# Altium footprint library Lib1.PcbLib: 38 footprints (part 3 of 3)
Each footprint in its own frame and in the unit in brackets; x right, y up, seen from the top. Pads: shape width x height; smd on the part's side, far side on the other; paste and mask are expansions set on the pad; w line width, h text height; cw(c..) or ccw(c..) is an arc to the next point about the centre after c.
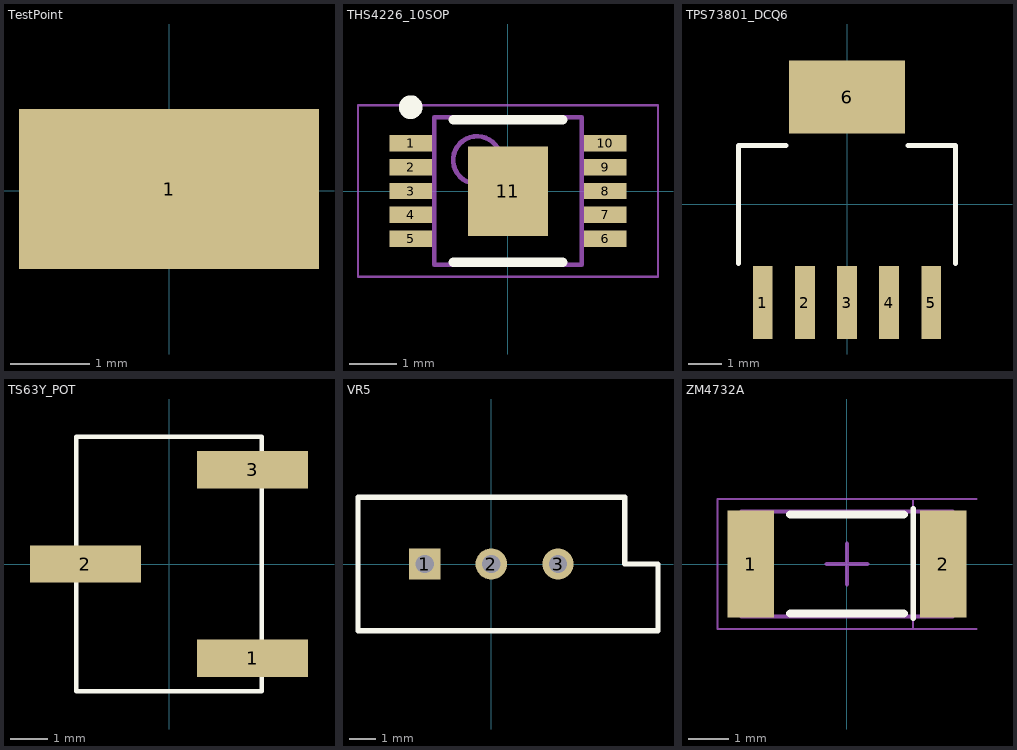
[diagram p2: the footprints below, top view; thin cyan lines are the x and y axes]

## TestPoint [mm]
pads (1):
  rect 3.8x2.03 smd: 1(0,0.025)

## THS4226_10SOP [mm] "TSSOP, 10-Leads, Body 3.00x3.00mm, Pitch 0.50mm, Thermal Pad 1.88x1.68mm, IPC Medium Density"
height 1.1
pads (11):
  rect 0.889x0.345 smd: 1(-2.044,1) 2(-2.044,0.5) 3(-2.044,0) 4(-2.044,-0.5) 5(-2.044,-1) 6(2.045,-1) 7(2.045,-0.5) 8(2.045,0) 9(2.045,0.5) 10(2.045,1)
  rect 1.68x1.88 smd: 11(0,0)
Top Overlay:
  circle w0.25: c-2.044,1.76 r0.125
  lines w0.2: -1.15,-1.5 1.15,-1.5 ; -1.15,1.5 1.15,1.5
Mechanical 13:
  circle w0.1: c-0.65,0.65 r0.5
  lines w0.1: -1.55,-1.55 1.55,-1.55 1.55,1.55 -1.55,1.55 -1.55,-1.55
Mechanical 15:
  lines w0.05: -3.15,-1.8 3.15,-1.8 3.15,1.8 -3.15,1.8 -3.15,-1.8
  lines w0.1: -0.5,0 0.5,0 ; 0,-0.5 0,0.5
3D body: height 1.1, standoff 0.05, extent -1.55,-1.55 1.55,1.55

## TPS73801_DCQ6 [mm]
pads (6):
  rect 0.6x2.2 smd: 1(-2.54,-2.959) 2(-1.27,-2.959) 3(0,-2.959) 4(1.27,-2.959) 5(2.54,-2.959)
  rect 3.5x2.2 smd: 6(0,3.241)
Top Overlay:
  lines w0.152: -3.277,-1.778 -3.277,1.778 -1.845,1.778 ; 1.845,1.778 3.277,1.778 3.277,-1.778

## TS63Y_POT [mm]
pads (3):
  rect 3x1 smd: 1(2.25,-2.54) 2(-2.25,0) 3(2.25,2.54)
Top Overlay:
  lines w0.127: -2.5,3.425 -2.5,-3.424 2.5,-3.424 2.5,3.426 -2.498,3.427

## VR5 [mm] "Thru-Hole; 3 Leads"
pads (3):
  rect 1.2x1.2 hole 0.7: 1(-2.54,0)
  round 1.2 hole 0.7: 2(0,0) 3(2.54,0)
Top Overlay:
  lines w0.2: -5.08,-2.54 6.35,-2.54 6.35,0 5.08,0 5.08,2.54 -5.08,2.54 -5.08,-2.54

## ZM4732A [mm]
height 2.6
pads (2):
  rect 1.15x2.65 smd: 1(-2.375,0) 2(2.375,0)
Top Overlay:
  lines w0.127: 1.634,-1.347 1.634,1.372
  lines w0.2: -1.4,-1.225 1.4,-1.225 ; -1.4,1.225 1.4,1.225
Mechanical 13:
  lines w0.1: -2.6,-1.3 2.6,-1.3 2.6,1.3 -2.6,1.3 -2.6,-1.3
Mechanical 15:
  lines w0.05: 1.627,-1.6 1.627,1.6 ; 3.2,-1.6 -3.2,-1.6 -3.2,1.6 3.2,1.6
  lines w0.1: -0.5,0 0.5,0 ; 0,-0.5 0,0.5
3D body: height 2.6, standoff 0, extent 2.17,-1.3 2.6,1.3
3D body: height 2.6, standoff 0, extent -2.6,-1.3 -2.17,1.3
3D body: height 2.6, standoff 0, extent -2.17,-1.3 2.17,1.3